# Altium schematic symbol library QUTMS_JumperLibrary.SchLib: 8 symbols
Pins are listed as number, name and electrical type; pins without a type are passive.

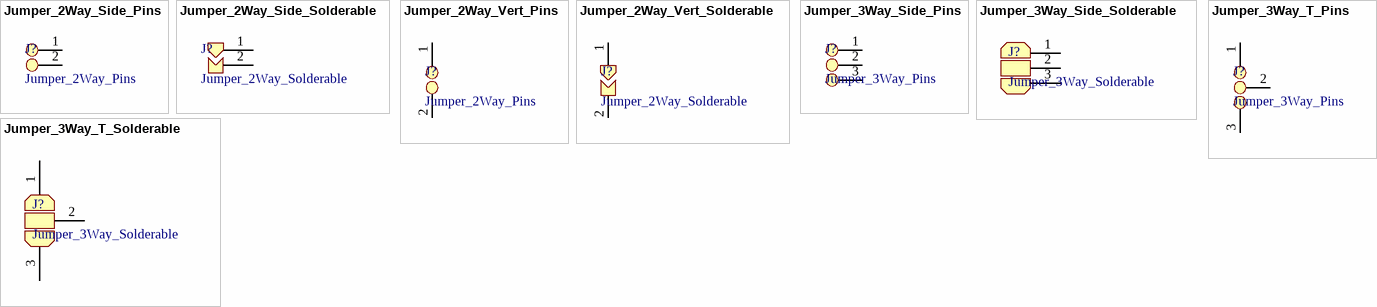
[diagram p0: symbols Jumper_2Way_Side_Pins to Jumper_3Way_T_Solderable]

## Jumper_2Way_Side_Pins
designator J?, comment Jumper_2Way_Pins
footprint Jumper_2Way_Pin
pins: 1, 2

## Jumper_2Way_Side_Solderable
designator J?, comment Jumper_2Way_Solderable
footprint Jumper_2Way_Solderable
pins: 1, 2

## Jumper_2Way_Vert_Pins
designator J?, comment Jumper_2Way_Pins
footprint Jumper_2Way_Pin
pins: 1, 2

## Jumper_2Way_Vert_Solderable
designator J?, comment Jumper_2Way_Solderable
footprint Jumper_2Way_Solderable
pins: 1, 2

## Jumper_3Way_Side_Pins
designator J?, comment Jumper_3Way_Pins
footprint Jumper_3Way_Pin
pins: 1, 2, 3

## Jumper_3Way_Side_Solderable
designator J?, comment Jumper_3Way_Solderable
footprint Jumper_3Way_Solderable
pins: 1, 2, 3

## Jumper_3Way_T_Pins
designator J?, comment Jumper_3Way_Pins
footprint Jumper_3Way_Pin
pins: 1, 2, 3

## Jumper_3Way_T_Solderable
designator J?, comment Jumper_3Way_Solderable
footprint Jumper_3Way_Solderable
pins: 1, 2, 3